# Altium footprint library PcbLib1.PcbLib: 23 footprints (part 2 of 2)
Each footprint in its own frame and in the unit in brackets; x right, y up, seen from the top. Pads: shape width x height; smd on the part's side, far side on the other; paste and mask are expansions set on the pad; w line width, h text height; cw(c..) or ccw(c..) is an arc to the next point about the centre after c.
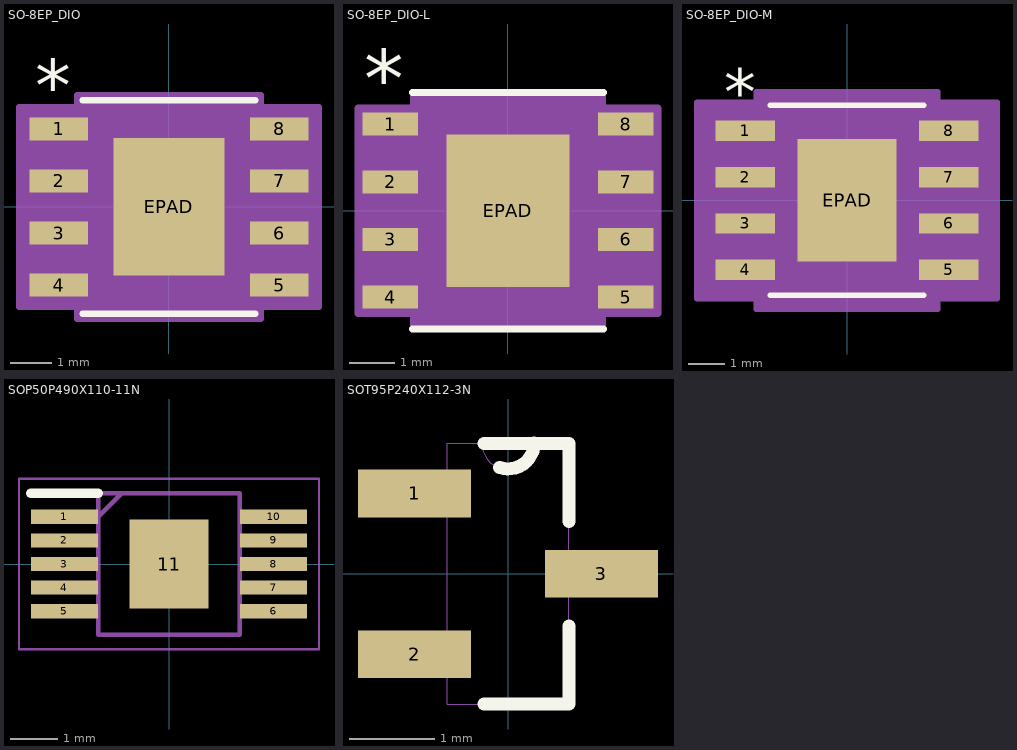
[diagram p1: the footprints below, top view; thin cyan lines are the x and y axes]

## PCBComponent_1 - duplicate - duplicate [mm]

## PCBComponent_1 - duplicate - duplicate - duplicate [mm]

## SO-8EP_DIO [mil]
pads (9):
  rect 56x22 smd paste+0 mask+0: 1(-106,75) 2(-106,25) 3(-106,-25) 4(-106,-75) 5(106,-75) 6(106,-25) 7(106,25) 8(106,75)
  rect 107x132 smd paste-65.5 mask+0: EPAD(0,0)
Top Overlay:
  lines w6: -83,-102.5 83,-102.5 ; -83,102.5 83,102.5
  text "*" at -128.5,92 h50
Top Paste:
  region: -3.94,62.06 -49.56,62.06 -49.56,3.94 -3.94,3.94
  region: -3.94,-3.94 -49.56,-3.94 -49.56,-62.06 -3.94,-62.06
  region: 49.56,62.06 3.94,62.06 3.94,3.94 49.56,3.94
  region: 49.56,-3.94 3.94,-3.94 3.94,-62.06 49.56,-62.06
Mechanical 13:
  lines w0: -12,97.5 ccw(c0,97.5) 12,97.5
  lines w1: -120,-85 -120,-65 -78,-65 -78,-85 -120,-85 ; -120,-35 -120,-15 -78,-15 -78,-35 -120,-35 ; -120,15 -120,35 -78,35 -78,15 -120,15 ; -120,65 -120,85 -78,85 -78,65 -120,65 ; -78,-97.5 78,-97.5 78,97.5 -78,97.5 -78,-97.5 ; 78,-85 78,-65 120,-65 120,-85 78,-85 ; 78,-35 78,-15 120,-15 120,-35 78,-35 ; 78,15 78,35 120,35 120,15 78,15 ; 78,65 78,85 120,85 120,65 78,65
  text "*" at -75.5,44.5 h50
Mechanical 15:
  region: -88,-96 -144,-96 -144,96 -88,96 -88,107.5 88,107.5 88,96 144,96 144,-96 88,-96 88,-107.5 -88,-107.5
  lines w6: -144,-96 -144,96 -88,96 -88,107.5 88,107.5 88,96 144,96 144,-96 88,-96 88,-107.5 -88,-107.5 -88,-96 -144,-96
3D body "SO-8EP_DIO.step": height 64.09, standoff -2.01, extent -120,-97.48 120,97.48

## SO-8EP_DIO-L [mil]
pads (9):
  rect 48x20 smd paste+0 mask+0: 1(-102,75) 2(-102,25) 3(-102,-25) 4(-102,-75) 5(102,-75) 6(102,-25) 7(102,25) 8(102,75)
  rect 107x132 smd paste-65.5 mask+0: EPAD(0,0)
Top Overlay:
  lines w6: -83,-102.5 83,-102.5 ; -83,102.5 83,102.5
  text "*" at -124.5,90 h50
Top Paste:
  region: -3.94,62.06 -49.56,62.06 -49.56,3.94 -3.94,3.94
  region: -3.94,-3.94 -49.56,-3.94 -49.56,-62.06 -3.94,-62.06
  region: 49.56,62.06 3.94,62.06 3.94,3.94 49.56,3.94
  region: 49.56,-3.94 3.94,-3.94 3.94,-62.06 49.56,-62.06
Mechanical 13:
  lines w0: -12,97.5 ccw(c0,97.5) 12,97.5
  lines w1: -120,-85 -120,-65 -78,-65 -78,-85 -120,-85 ; -120,-35 -120,-15 -78,-15 -78,-35 -120,-35 ; -120,15 -120,35 -78,35 -78,15 -120,15 ; -120,65 -120,85 -78,85 -78,65 -120,65 ; -78,-97.5 78,-97.5 78,97.5 -78,97.5 -78,-97.5 ; 78,-85 78,-65 120,-65 120,-85 78,-85 ; 78,-35 78,-15 120,-15 120,-35 78,-35 ; 78,15 78,35 120,35 120,15 78,15 ; 78,65 78,85 120,85 120,65 78,65
  text "*" at -75.5,44.5 h50
Mechanical 15:
  region: -82,-89 -130,-89 -130,89 -82,89 -82,101.5 82,101.5 82,89 130,89 130,-89 82,-89 82,-101.5 -82,-101.5
  lines w6: -130,-89 -130,89 -82,89 -82,101.5 82,101.5 82,89 130,89 130,-89 82,-89 82,-101.5 -82,-101.5 -82,-89 -130,-89
3D body "SO-8EP_DIO.step": height 64.09, standoff -2.01, extent -120,-97.48 120,97.48

## SO-8EP_DIO-M [mil]
pads (9):
  rect 64x22 smd paste+0 mask+0: 1(-110,75) 2(-110,25) 3(-110,-25) 4(-110,-75) 5(110,-75) 6(110,-25) 7(110,25) 8(110,75)
  rect 107x132 smd paste-65.5 mask+0: EPAD(0,0)
Top Overlay:
  lines w6: -83,-102.5 83,-102.5 ; -83,102.5 83,102.5
  text "*" at -132.5,92 h50
Top Paste:
  region: -3.94,62.06 -49.56,62.06 -49.56,3.94 -3.94,3.94
  region: -3.94,-3.94 -49.56,-3.94 -49.56,-62.06 -3.94,-62.06
  region: 49.56,62.06 3.94,62.06 3.94,3.94 49.56,3.94
  region: 49.56,-3.94 3.94,-3.94 3.94,-62.06 49.56,-62.06
Mechanical 13:
  lines w0: -12,97.5 ccw(c0,97.5) 12,97.5
  lines w1: -120,-85 -120,-65 -78,-65 -78,-85 -120,-85 ; -120,-35 -120,-15 -78,-15 -78,-35 -120,-35 ; -120,15 -120,35 -78,35 -78,15 -120,15 ; -120,65 -120,85 -78,85 -78,65 -120,65 ; -78,-97.5 78,-97.5 78,97.5 -78,97.5 -78,-97.5 ; 78,-85 78,-65 120,-65 120,-85 78,-85 ; 78,-35 78,-15 120,-15 120,-35 78,-35 ; 78,15 78,35 120,35 120,15 78,15 ; 78,65 78,85 120,85 120,65 78,65
  text "*" at -75.5,44.5 h50
Mechanical 15:
  region: -98,-106 -162,-106 -162,106 -98,106 -98,117.5 98,117.5 98,106 162,106 162,-106 98,-106 98,-117.5 -98,-117.5
  lines w6: -162,-106 -162,106 -98,106 -98,117.5 98,117.5 98,106 162,106 162,-106 98,-106 98,-117.5 -98,-117.5 -98,-106 -162,-106
3D body "SO-8EP_DIO.step": height 64.09, standoff -2.01, extent -120,-97.48 120,97.48

## SOP50P490X110-11N [mm]
pads (11):
  rect 1.425x0.3 smd: 1(-2.212,1) 2(-2.212,0.5) 3(-2.212,0) 4(-2.212,-0.5) 5(-2.212,-1) 6(2.212,-1) 7(2.212,-0.5) 8(2.212,0) 9(2.212,0.5) 10(2.212,1)
  rect 1.68x1.88 smd: 11(0,0)
Top Overlay:
  lines w0.2: -2.925,1.5 -1.5,1.5
Mechanical 15:
  lines w0.1: -1.5,1 -1,1.5 ; -1.5,-1.5 -1.5,1.5 1.5,1.5 1.5,-1.5 -1.5,-1.5
Mechanical 20:
  lines w0.05: -3.175,-1.801 -3.175,1.801 3.175,1.801 3.175,-1.801 -3.175,-1.801

## SOT95P240X112-3N [mil]
pads (3):
  rect 52x22 smd: 1(-43,37) 2(-43,-37) 3(43,0)
Top Overlay:
  lines w6: -11,-60 28,-60 28,-24 ; -11,60 12,60 28,60 28,24 ; -3.9,48.96 ccw(c0.15,60.1) 12,60.1
Mechanical 13:
  lines w0: -28,-47 -28,-60 28,-60 28,-10 ; -28,-47 -28,-28 ; -28,-47 -52,-47 -52,-28 -28,-28 ; -28,-28 -28,28 ; -28,28 -28,47 ; -28,28 -52,28 -52,47 -28,47 ; -28,47 -28,60 -12,60 ; -12,60 ccw(c0,60) 12,60 ; -12,60 12,60 ; 12,60 28,60 28,10 ; 28,-10 28,10 ; 28,-10 52,-10 52,10 28,10